# EAGLE library part 5055557-4 (library Terminals-Splices)
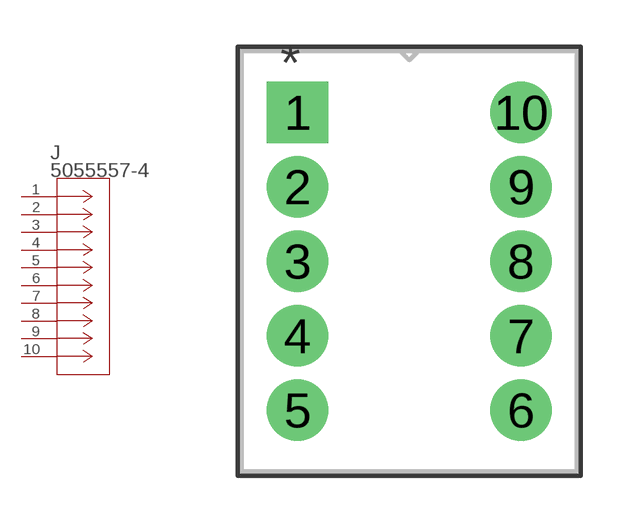
[diagram p0: symbol with the pads of CONN_5055557-4; footprint CONN_5055557-4]

Designator prefix J

## 5055557-4 (BUILT_BY: EMA_UL_Team; CATEGORY: Power Terminals; DESCRIPTION: 10 POWER TAP ASSY .100; MANUFACTURER_PART_NUMBER: 5055557-4; PART_STATUS: active; SERIES: Unknown; VENDOR: TE Connectivity)  [CONN_5055557-4]
1  1  pas
2  2  pas
3  3  pas
4  4  pas
5  5  pas
6  6  pas
7  7  pas
8  8  pas
9  9  pas
10  10  pas

## Footprint CONN_5055557-4 (pad centres in mm)
drill 1.397 pad 1.905 square: 1 -7.62,10.16
drill 1.397 pad 1.905: 2 -7.62,7.62; 3 -7.62,5.08; 4 -7.62,2.54; 5 -7.62,0; 6 0,0; 7 0,2.54; 8 0,5.08; 9 0,7.62; 10 0,10.16